# Altium schematic symbol library Components - 25.04.20 - 12.49.SchLib: 1 symbol
Pins are listed as number, name and electrical type; pins without a type are passive.

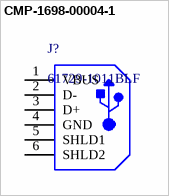
[diagram p0: symbol CMP-1698-00004-1]

## CMP-1698-00004-1
designator J?, comment 61729-1011BLF
USB Receptacle B Type, Right Angle, -40 to 85 degC, 4-Pin THD, RoHS, Tube; Voltage Rating (DC): 100 V; Case\Package: Radial; Capacitance: 22 uF; Tolerance: 20%; ComponentLink2Description: Datasheet; Lead Pitch: 2.5 mm; Packaging: Bulk; REACH SVHC: No SVHC; Length: 11.2 mm; Pins: 2; Radiation Hardening: No; RoHSCompliant: true; ComponentLink1Description: Manufacturer URL; Voltage Rating: 100 V; Min Operating Temperature: -40 degC; PackageDescription: 4-Pin Through Hole Device, Body 16 x 12.2 mm; Height: 11.2 mm; PackageReference: 61729-1011BLF; Package Quantity: 200; ComponentLink2URL: http://portal.fciconnect.com/Comergent/fci/drawing/61729.pdf; DatasheetVersion: Rev. W, 05/2014; Max Operating Temperature: 85 degC; Diameter: 6.3 mm; ComponentLink1URL: http://portal.fciconnect.com/; Mount: Through Hole
footprint FCI-61729-1011BLF_V (THD, 4-Leads, Body 16x12.2mm)
pins: 1 VBUS, 2 D-, 3 D+, 4 GND, 5 SHLD1, 6 SHLD2